# EAGLE library part TBC23-12 (library led-seg)
Kingbright TBC23-12x 8x8 2 color dot matrix. Different columns catode. 60.3x60.3mm place. 5mm dot diameter. 2009 Draw by Ivan A-R <http://tuxotronic.org>. License CC-BY-SA 3.0 <http://creativecommons.org/licenses/by-sa/3.0/>
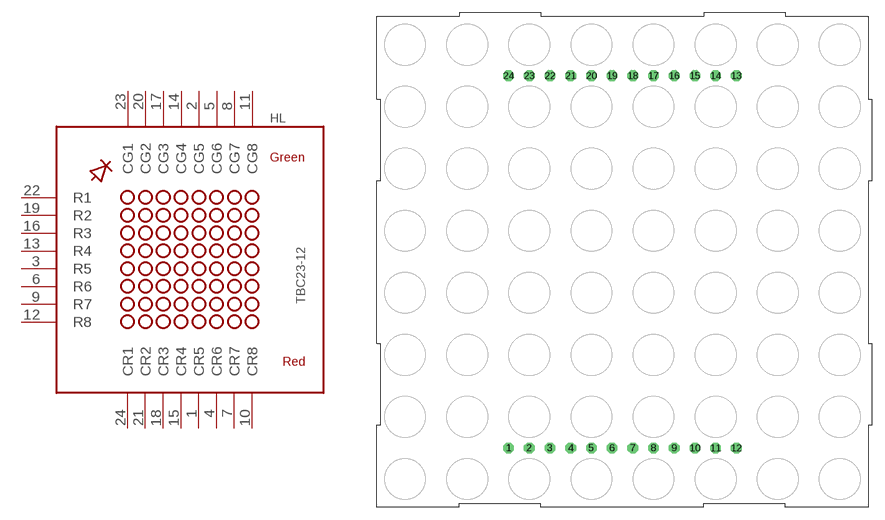
[diagram p8: symbol with the pads of T*23-12; footprint T*23-12]

Designator prefix HL

## TBC23-12EGWA, TBC23-12EGWB  [T*23-12]
1  CR5  in
2  CG5  in
3  R5  in
4  CR6  in
5  CG6  in
6  R6  in
7  CR7  in
8  CG7  in
9  R7  in
10  CR8  in
11  CG8  in
12  R8  in
13  R4  in
14  CG4  in
15  CR4  in
16  R3  in
17  CG3  in
18  CR3  in
19  R2  in
20  CG2  in
21  CR2  in
22  R1  in
23  CG1  in
24  CR1  in

## Footprint T*23-12 (pad centres in mm)
Kingbright 8x8 LEDs matrix
drill 0.8 octagon: 1 -13.97,-22.86; 2 -11.43,-22.86; 3 -8.89,-22.86; 4 -6.35,-22.86; 5 -3.81,-22.86; 6 -1.27,-22.86; 7 1.27,-22.86; 8 3.81,-22.86; 9 6.35,-22.86; 10 8.89,-22.86; 11 11.43,-22.86; 12 13.97,-22.86; 13 13.97,22.86; 14 11.43,22.86; 15 8.89,22.86; 16 6.35,22.86; 17 3.81,22.86; 18 1.27,22.86; 19 -1.27,22.86; 20 -3.81,22.86; 21 -6.35,22.86; 22 -8.89,22.86; 23 -11.43,22.86; 24 -13.97,22.86